# Altium footprint library Connector_Wire.PcbLib: 290 footprints (part 1 of 19)
Each footprint in its own frame and in the unit in brackets; x right, y up, seen from the top. Pads: shape width x height; smd on the part's side, far side on the other; paste and mask are expansions set on the pad; w line width, h text height; cw(c..) or ccw(c..) is an arc to the next point about the centre after c.
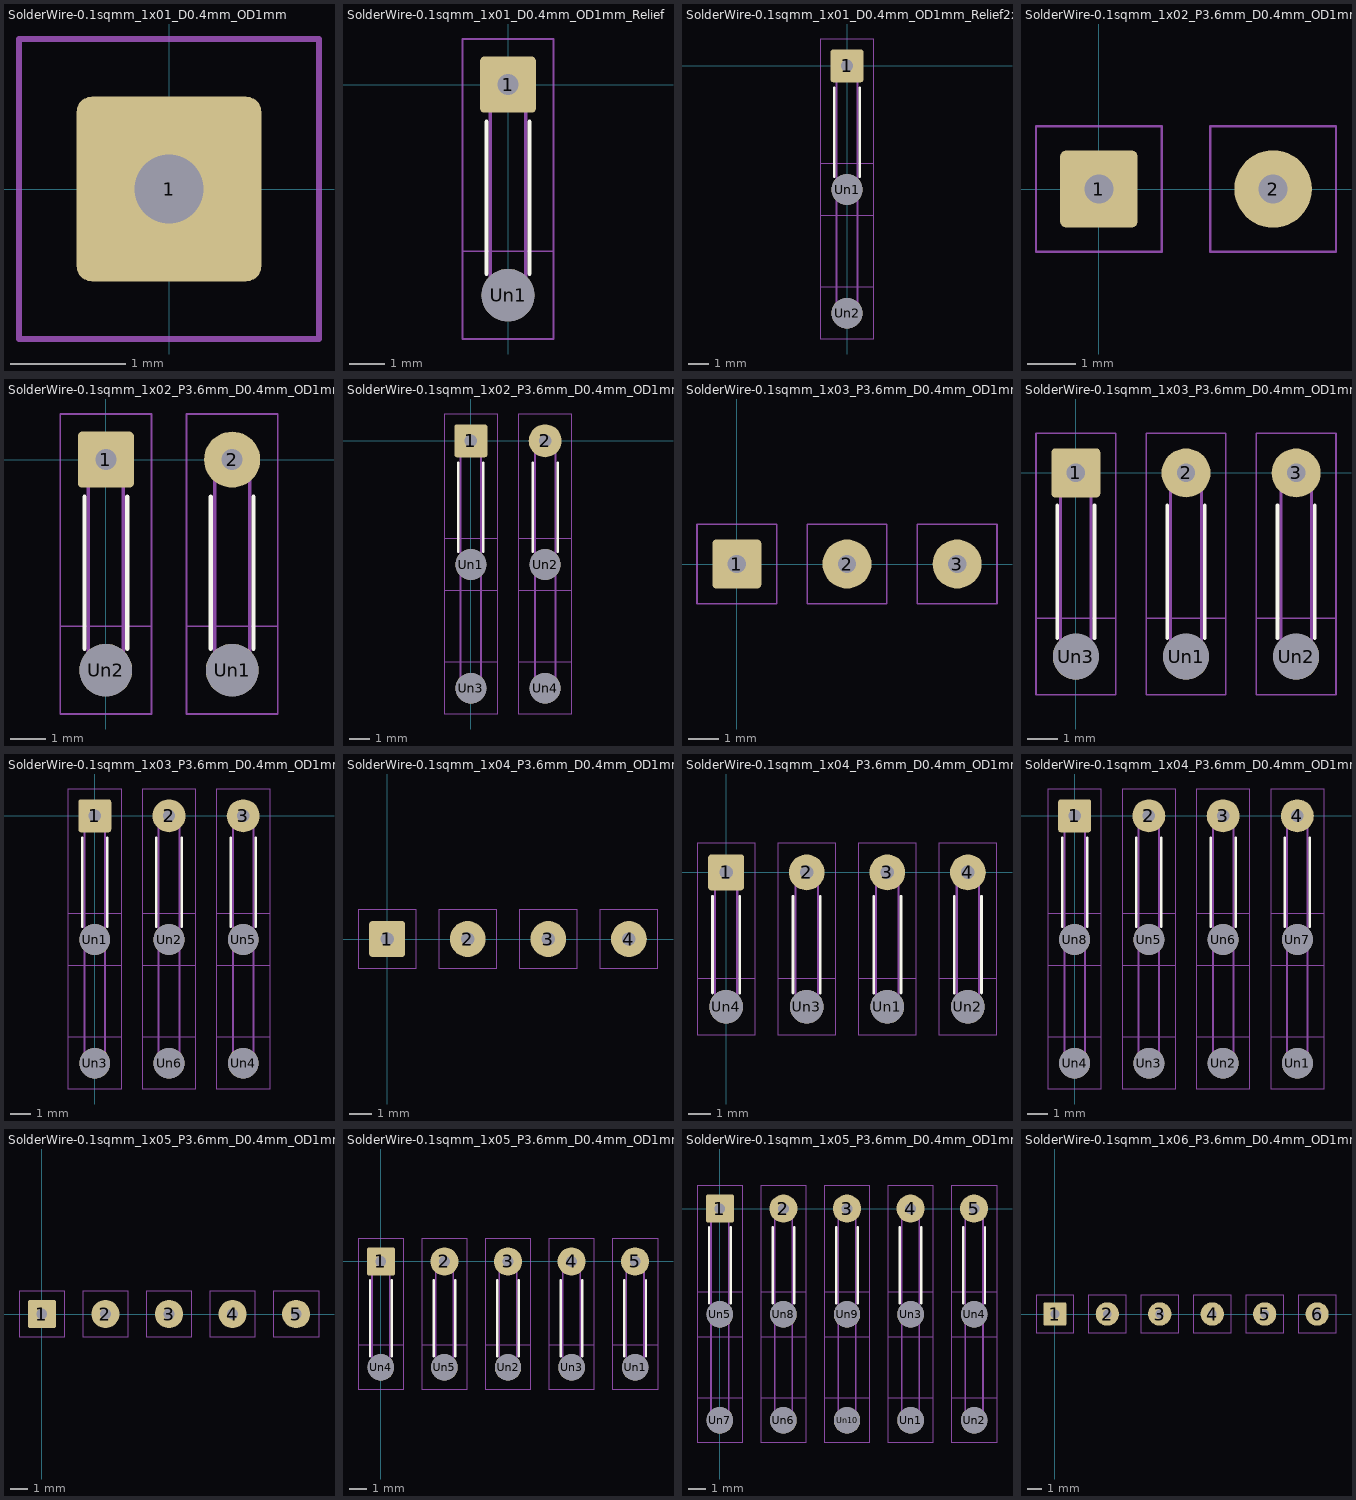
[diagram p0: the footprints below, top view; thin cyan lines are the x and y axes]

## SolderWire-0.1sqmm_1x01_D0.4mm_OD1mm [mm]
pads (1):
  rrect16% 1.6x1.6 hole 0.6: 1(0,0)
F.CrtYd:
  lines w0.05: -1.3,-1.3 -1.3,1.3 1.3,1.3 1.3,-1.3 -1.3,-1.3
F.Fab:
  circle w0.1: c0,0 r0.5
  text "'.Designator'" at -1.014,-0.213 h0.25

## SolderWire-0.1sqmm_1x01_D0.4mm_OD1mm_Relief [mm]
pads (2):
  rrect16% 1.6x1.6 hole 0.6: 1(0,0)
  round 1.5 hole 1.5: Un1(0,-6)
F.SilkS:
  lines w0.12: -0.61,-5.39 -0.61,-1.06 ; 0.61,-5.39 0.61,-1.06
B.CrtYd:
  lines w0.05: -1.3,-7.25 -1.3,-4.75 1.3,-4.75 1.3,-7.25 -1.3,-7.25
F.CrtYd:
  lines w0.05: -1.3,-7.25 -1.3,1.3 1.3,1.3 1.3,-7.25 -1.3,-7.25
F.Fab:
  circle w0.1: c0,-6 r0.5
  circle w0.1: c0,0 r0.5
  lines w0.1: -0.5,-6 -0.5,0 ; 0.5,-6 0.5,0
  text "'.Designator'" at 0.672,-6.237 h0.8

## SolderWire-0.1sqmm_1x01_D0.4mm_OD1mm_Relief2x [mm]
pads (3):
  rrect16% 1.6x1.6 hole 0.6: 1(0,0)
  round 1.5 hole 1.5: Un1(0,-6) Un2(0,-12)
F.SilkS:
  lines w0.12: -0.61,-5.39 -0.61,-1.06 ; 0.61,-5.39 0.61,-1.06
B.SilkS:
  lines w0.12: -0.61,-11.39 -0.61,-6.61 ; 0.61,-11.39 0.61,-6.61
B.CrtYd:
  lines w0.05: -1.3,-13.25 -1.3,-4.75 1.3,-4.75 1.3,-13.25 -1.3,-13.25
F.CrtYd:
  lines w0.05: -1.3,-13.25 1.3,-13.25 1.3,-10.75 -1.3,-10.75 -1.3,-13.25 ; -1.3,-7.25 1.3,-7.25 1.3,1.3 -1.3,1.3 -1.3,-7.25
B.Fab:
  circle w0.1: c0,-6 r0.5
  circle w0.1: c0,-12 r0.5
  lines w0.1: -0.5,-12 -0.5,-6 ; 0.5,-12 0.5,-6
F.Fab:
  circle w0.1: c0,0 r0.5
  circle w0.1: c0,-6 r0.5
  circle w0.1: c0,-12 r0.5
  lines w0.1: -0.5,-6 -0.5,0 ; 0.5,-6 0.5,0
  text "'.Designator'" at 0.672,-6.237 h0.8

## SolderWire-0.1sqmm_1x02_P3.6mm_D0.4mm_OD1mm [mm]
pads (2):
  rrect16% 1.6x1.6 hole 0.6: 1(0,0)
  round 1.6 hole 0.6: 2(3.6,0)
F.CrtYd:
  lines w0.05: -1.3,-1.3 -1.3,1.3 1.3,1.3 1.3,-1.3 -1.3,-1.3 ; 2.3,-1.3 2.3,1.3 4.9,1.3 4.9,-1.3 2.3,-1.3
F.Fab:
  circle w0.1: c0,0 r0.5
  circle w0.1: c3.6,0 r0.5
  text "'.Designator'" at 2.349,-2.633 h0.65

## SolderWire-0.1sqmm_1x02_P3.6mm_D0.4mm_OD1mm_Relief [mm]
pads (4):
  rrect16% 1.6x1.6 hole 0.6: 1(0,0)
  round 1.6 hole 0.6: 2(3.6,0)
  round 1.5 hole 1.5: Un1(3.6,-6) Un2(0,-6)
F.SilkS:
  lines w0.12: -0.61,-5.39 -0.61,-1.06 ; 0.61,-5.39 0.61,-1.06 ; 2.99,-5.39 2.99,-1.06 ; 4.21,-5.39 4.21,-1.06
B.CrtYd:
  lines w0.05: -1.3,-7.25 1.3,-7.25 1.3,-4.75 -1.3,-4.75 -1.3,-7.25 ; 2.3,-7.25 2.3,-4.75 4.9,-4.75 4.9,-7.25 2.3,-7.25
F.CrtYd:
  lines w0.05: -1.3,-7.25 -1.3,1.3 1.3,1.3 1.3,-7.25 -1.3,-7.25 ; 2.3,-7.25 2.3,1.3 4.9,1.3 4.9,-7.25 2.3,-7.25
F.Fab:
  circle w0.1: c3.6,-6 r0.5
  circle w0.1: c0,-6 r0.5
  circle w0.1: c3.6,0 r0.5
  circle w0.1: c0,0 r0.5
  lines w0.1: -0.5,-6 -0.5,0 ; 0.5,-6 0.5,0 ; 3.1,-6 3.1,0 ; 4.1,-6 4.1,0
  text "'.Designator'" at 2.472,-6.237 h0.8

## SolderWire-0.1sqmm_1x02_P3.6mm_D0.4mm_OD1mm_Relief2x [mm]
pads (6):
  rrect16% 1.6x1.6 hole 0.6: 1(0,0)
  round 1.6 hole 0.6: 2(3.6,0)
  round 1.5 hole 1.5: Un1(0,-6) Un2(3.6,-6) Un3(0,-12) Un4(3.6,-12)
F.SilkS:
  lines w0.12: -0.61,-5.39 -0.61,-1.06 ; 0.61,-5.39 0.61,-1.06 ; 2.99,-5.39 2.99,-1.06 ; 4.21,-5.39 4.21,-1.06
B.SilkS:
  lines w0.12: -0.61,-11.39 -0.61,-6.61 ; 0.61,-11.39 0.61,-6.61 ; 2.99,-11.39 2.99,-6.61 ; 4.21,-11.39 4.21,-6.61
B.CrtYd:
  lines w0.05: -1.3,-13.25 1.3,-13.25 1.3,-4.75 -1.3,-4.75 -1.3,-13.25 ; 2.3,-13.25 2.3,-4.75 4.9,-4.75 4.9,-13.25 2.3,-13.25
F.CrtYd:
  lines w0.05: -1.3,-13.25 1.3,-13.25 1.3,-10.75 -1.3,-10.75 -1.3,-13.25 ; -1.3,-7.25 -1.3,1.3 1.3,1.3 1.3,-7.25 -1.3,-7.25 ; 2.3,-13.25 4.9,-13.25 4.9,-10.75 2.3,-10.75 2.3,-13.25 ; 2.3,-7.25 4.9,-7.25 4.9,1.3 2.3,1.3 2.3,-7.25
B.Fab:
  circle w0.1: c3.6,-12 r0.5
  circle w0.1: c0,-12 r0.5
  circle w0.1: c0,-6 r0.5
  circle w0.1: c3.6,-6 r0.5
  lines w0.1: -0.5,-12 -0.5,-6 ; 0.5,-12 0.5,-6 ; 3.1,-12 3.1,-6 ; 4.1,-12 4.1,-6
F.Fab:
  circle w0.1: c3.6,-12 r0.5
  circle w0.1: c3.6,-6 r0.5
  circle w0.1: c0,0 r0.5
  circle w0.1: c0,-6 r0.5
  circle w0.1: c0,-12 r0.5
  circle w0.1: c3.6,0 r0.5
  lines w0.1: -0.5,-6 -0.5,0 ; 0.5,-6 0.5,0 ; 3.1,-6 3.1,0 ; 4.1,-6 4.1,0
  text "'.Designator'" at 2.472,-6.237 h0.8

## SolderWire-0.1sqmm_1x03_P3.6mm_D0.4mm_OD1mm [mm]
pads (3):
  rrect16% 1.6x1.6 hole 0.6: 1(0,0)
  round 1.6 hole 0.6: 2(3.6,0) 3(7.2,0)
F.CrtYd:
  lines w0.05: -1.3,-1.3 1.3,-1.3 1.3,1.3 -1.3,1.3 -1.3,-1.3 ; 2.3,-1.3 4.9,-1.3 4.9,1.3 2.3,1.3 2.3,-1.3 ; 5.9,-1.3 8.5,-1.3 8.5,1.3 5.9,1.3 5.9,-1.3
F.Fab:
  circle w0.1: c7.2,0 r0.5
  circle w0.1: c0,0 r0.5
  circle w0.1: c3.6,0 r0.5
  text "'.Designator'" at 3.813,-1.014 h0.25

## SolderWire-0.1sqmm_1x03_P3.6mm_D0.4mm_OD1mm_Relief [mm]
pads (6):
  rrect16% 1.6x1.6 hole 0.6: 1(0,0)
  round 1.6 hole 0.6: 2(3.6,0) 3(7.2,0)
  round 1.5 hole 1.5: Un1(3.6,-6) Un2(7.2,-6) Un3(0,-6)
F.SilkS:
  lines w0.12: -0.61,-5.39 -0.61,-1.06 ; 0.61,-5.39 0.61,-1.06 ; 2.99,-5.39 2.99,-1.06 ; 4.21,-5.39 4.21,-1.06 ; 6.59,-5.39 6.59,-1.06 ; 7.81,-5.39 7.81,-1.06
B.CrtYd:
  lines w0.05: -1.3,-7.25 -1.3,-4.75 1.3,-4.75 1.3,-7.25 -1.3,-7.25 ; 2.3,-7.25 4.9,-7.25 4.9,-4.75 2.3,-4.75 2.3,-7.25 ; 5.9,-7.25 8.5,-7.25 8.5,-4.75 5.9,-4.75 5.9,-7.25
F.CrtYd:
  lines w0.05: -1.3,-7.25 -1.3,1.3 1.3,1.3 1.3,-7.25 -1.3,-7.25 ; 2.3,-7.25 4.9,-7.25 4.9,1.3 2.3,1.3 2.3,-7.25 ; 5.9,-7.25 8.5,-7.25 8.5,1.3 5.9,1.3 5.9,-7.25
F.Fab:
  circle w0.1: c0,-6 r0.5
  circle w0.1: c3.6,0 r0.5
  circle w0.1: c3.6,-6 r0.5
  circle w0.1: c0,0 r0.5
  circle w0.1: c7.2,0 r0.5
  circle w0.1: c7.2,-6 r0.5
  lines w0.1: -0.5,-6 -0.5,0 ; 0.5,-6 0.5,0 ; 3.1,-6 3.1,0 ; 4.1,-6 4.1,0 ; 6.7,-6 6.7,0 ; 7.7,-6 7.7,0
  text "'.Designator'" at 4.272,-6.237 h0.8

## SolderWire-0.1sqmm_1x03_P3.6mm_D0.4mm_OD1mm_Relief2x [mm]
pads (9):
  rrect16% 1.6x1.6 hole 0.6: 1(0,0)
  round 1.6 hole 0.6: 2(3.6,0) 3(7.2,0)
  round 1.5 hole 1.5: Un1(0,-6) Un2(3.6,-6) Un3(0,-12) Un4(7.2,-12) Un5(7.2,-6) Un6(3.6,-12)
F.SilkS:
  lines w0.12: -0.61,-5.39 -0.61,-1.06 ; 0.61,-5.39 0.61,-1.06 ; 2.99,-5.39 2.99,-1.06 ; 4.21,-5.39 4.21,-1.06 ; 6.59,-5.39 6.59,-1.06 ; 7.81,-5.39 7.81,-1.06
B.SilkS:
  lines w0.12: -0.61,-11.39 -0.61,-6.61 ; 0.61,-11.39 0.61,-6.61 ; 2.99,-11.39 2.99,-6.61 ; 4.21,-11.39 4.21,-6.61 ; 6.59,-11.39 6.59,-6.61 ; 7.81,-11.39 7.81,-6.61
B.CrtYd:
  lines w0.05: -1.3,-13.25 -1.3,-4.75 1.3,-4.75 1.3,-13.25 -1.3,-13.25 ; 2.3,-13.25 4.9,-13.25 4.9,-4.75 2.3,-4.75 2.3,-13.25 ; 5.9,-13.25 5.9,-4.75 8.5,-4.75 8.5,-13.25 5.9,-13.25
F.CrtYd:
  lines w0.05: -1.3,-13.25 -1.3,-10.75 1.3,-10.75 1.3,-13.25 -1.3,-13.25 ; -1.3,-7.25 1.3,-7.25 1.3,1.3 -1.3,1.3 -1.3,-7.25 ; 2.3,-13.25 2.3,-10.75 4.9,-10.75 4.9,-13.25 2.3,-13.25 ; 2.3,-7.25 4.9,-7.25 4.9,1.3 2.3,1.3 2.3,-7.25 ; 5.9,-13.25 5.9,-10.75 8.5,-10.75 8.5,-13.25 5.9,-13.25 ; 5.9,-7.25 5.9,1.3 8.5,1.3 8.5,-7.25 5.9,-7.25
B.Fab:
  circle w0.1: c0,-6 r0.5
  circle w0.1: c7.2,-6 r0.5
  circle w0.1: c3.6,-12 r0.5
  circle w0.1: c7.2,-12 r0.5
  circle w0.1: c3.6,-6 r0.5
  circle w0.1: c0,-12 r0.5
  lines w0.1: -0.5,-12 -0.5,-6 ; 0.5,-12 0.5,-6 ; 3.1,-12 3.1,-6 ; 4.1,-12 4.1,-6 ; 6.7,-12 6.7,-6 ; 7.7,-12 7.7,-6
F.Fab:
  circle w0.1: c7.2,-12 r0.5
  circle w0.1: c0,0 r0.5
  circle w0.1: c7.2,0 r0.5
  circle w0.1: c0,-12 r0.5
  circle w0.1: c3.6,-12 r0.5
  circle w0.1: c3.6,-6 r0.5
  circle w0.1: c0,-6 r0.5
  circle w0.1: c3.6,0 r0.5
  circle w0.1: c7.2,-6 r0.5
  lines w0.1: -0.5,-6 -0.5,0 ; 0.5,-6 0.5,0 ; 3.1,-6 3.1,0 ; 4.1,-6 4.1,0 ; 6.7,-6 6.7,0 ; 7.7,-6 7.7,0
  text "'.Designator'" at 4.272,-6.237 h0.8

## SolderWire-0.1sqmm_1x04_P3.6mm_D0.4mm_OD1mm [mm]
pads (4):
  rrect16% 1.6x1.6 hole 0.6: 1(0,0)
  round 1.6 hole 0.6: 2(3.6,0) 3(7.2,0) 4(10.8,0)
F.CrtYd:
  lines w0.05: -1.3,-1.3 1.3,-1.3 1.3,1.3 -1.3,1.3 -1.3,-1.3 ; 2.3,-1.3 2.3,1.3 4.9,1.3 4.9,-1.3 2.3,-1.3 ; 5.9,-1.3 5.9,1.3 8.5,1.3 8.5,-1.3 5.9,-1.3 ; 9.5,-1.3 12.1,-1.3 12.1,1.3 9.5,1.3 9.5,-1.3
F.Fab:
  circle w0.1: c7.2,0 r0.5
  circle w0.1: c0,0 r0.5
  circle w0.1: c10.8,0 r0.5
  circle w0.1: c3.6,0 r0.5
  text "'.Designator'" at 5.949,-2.633 h0.65

## SolderWire-0.1sqmm_1x04_P3.6mm_D0.4mm_OD1mm_Relief [mm]
pads (8):
  rrect16% 1.6x1.6 hole 0.6: 1(0,0)
  round 1.6 hole 0.6: 2(3.6,0) 3(7.2,0) 4(10.8,0)
  round 1.5 hole 1.5: Un1(7.2,-6) Un2(10.8,-6) Un3(3.6,-6) Un4(0,-6)
F.SilkS:
  lines w0.12: -0.61,-5.39 -0.61,-1.06 ; 0.61,-5.39 0.61,-1.06 ; 2.99,-5.39 2.99,-1.06 ; 4.21,-5.39 4.21,-1.06 ; 6.59,-5.39 6.59,-1.06 ; 7.81,-5.39 7.81,-1.06 ; 10.19,-5.39 10.19,-1.06 ; 11.41,-5.39 11.41,-1.06
B.CrtYd:
  lines w0.05: -1.3,-7.25 1.3,-7.25 1.3,-4.75 -1.3,-4.75 -1.3,-7.25 ; 2.3,-7.25 4.9,-7.25 4.9,-4.75 2.3,-4.75 2.3,-7.25 ; 5.9,-7.25 8.5,-7.25 8.5,-4.75 5.9,-4.75 5.9,-7.25 ; 9.5,-7.25 12.1,-7.25 12.1,-4.75 9.5,-4.75 9.5,-7.25
F.CrtYd:
  lines w0.05: -1.3,-7.25 -1.3,1.3 1.3,1.3 1.3,-7.25 -1.3,-7.25 ; 2.3,-7.25 4.9,-7.25 4.9,1.3 2.3,1.3 2.3,-7.25 ; 5.9,-7.25 8.5,-7.25 8.5,1.3 5.9,1.3 5.9,-7.25 ; 9.5,-7.25 9.5,1.3 12.1,1.3 12.1,-7.25 9.5,-7.25
F.Fab:
  circle w0.1: c7.2,0 r0.5
  circle w0.1: c3.6,0 r0.5
  circle w0.1: c7.2,-6 r0.5
  circle w0.1: c3.6,-6 r0.5
  circle w0.1: c10.8,0 r0.5
  circle w0.1: c0,0 r0.5
  circle w0.1: c0,-6 r0.5
  circle w0.1: c10.8,-6 r0.5
  lines w0.1: -0.5,-6 -0.5,0 ; 0.5,-6 0.5,0 ; 3.1,-6 3.1,0 ; 4.1,-6 4.1,0 ; 6.7,-6 6.7,0 ; 7.7,-6 7.7,0 ; 10.3,-6 10.3,0 ; 11.3,-6 11.3,0
  text "'.Designator'" at 6.072,-6.237 h0.8

## SolderWire-0.1sqmm_1x04_P3.6mm_D0.4mm_OD1mm_Relief2x [mm]
pads (12):
  rrect16% 1.6x1.6 hole 0.6: 1(0,0)
  round 1.6 hole 0.6: 2(3.6,0) 3(7.2,0) 4(10.8,0)
  round 1.5 hole 1.5: Un1(10.8,-12) Un2(7.2,-12) Un3(3.6,-12) Un4(0,-12) Un5(3.6,-6) Un6(7.2,-6) Un7(10.8,-6) Un8(0,-6)
F.SilkS:
  lines w0.12: -0.61,-5.39 -0.61,-1.06 ; 0.61,-5.39 0.61,-1.06 ; 2.99,-5.39 2.99,-1.06 ; 4.21,-5.39 4.21,-1.06 ; 6.59,-5.39 6.59,-1.06 ; 7.81,-5.39 7.81,-1.06 ; 10.19,-5.39 10.19,-1.06 ; 11.41,-5.39 11.41,-1.06
B.SilkS:
  lines w0.12: -0.61,-11.39 -0.61,-6.61 ; 0.61,-11.39 0.61,-6.61 ; 2.99,-11.39 2.99,-6.61 ; 4.21,-11.39 4.21,-6.61 ; 6.59,-11.39 6.59,-6.61 ; 7.81,-11.39 7.81,-6.61 ; 10.19,-11.39 10.19,-6.61 ; 11.41,-11.39 11.41,-6.61
B.CrtYd:
  lines w0.05: -1.3,-13.25 1.3,-13.25 1.3,-4.75 -1.3,-4.75 -1.3,-13.25 ; 2.3,-13.25 2.3,-4.75 4.9,-4.75 4.9,-13.25 2.3,-13.25 ; 5.9,-13.25 5.9,-4.75 8.5,-4.75 8.5,-13.25 5.9,-13.25 ; 9.5,-13.25 9.5,-4.75 12.1,-4.75 12.1,-13.25 9.5,-13.25
F.CrtYd:
  lines w0.05: -1.3,-13.25 1.3,-13.25 1.3,-10.75 -1.3,-10.75 -1.3,-13.25 ; -1.3,-7.25 1.3,-7.25 1.3,1.3 -1.3,1.3 -1.3,-7.25 ; 2.3,-13.25 2.3,-10.75 4.9,-10.75 4.9,-13.25 2.3,-13.25 ; 2.3,-7.25 2.3,1.3 4.9,1.3 4.9,-7.25 2.3,-7.25 ; 5.9,-13.25 8.5,-13.25 8.5,-10.75 5.9,-10.75 5.9,-13.25 ; 5.9,-7.25 8.5,-7.25 8.5,1.3 5.9,1.3 5.9,-7.25 ; 9.5,-13.25 9.5,-10.75 12.1,-10.75 12.1,-13.25 9.5,-13.25 ; 9.5,-7.25 9.5,1.3 12.1,1.3 12.1,-7.25 9.5,-7.25
B.Fab:
  circle w0.1: c3.6,-6 r0.5
  circle w0.1: c7.2,-12 r0.5
  circle w0.1: c10.8,-12 r0.5
  circle w0.1: c7.2,-6 r0.5
  circle w0.1: c0,-6 r0.5
  circle w0.1: c10.8,-6 r0.5
  circle w0.1: c3.6,-12 r0.5
  circle w0.1: c0,-12 r0.5
  lines w0.1: -0.5,-12 -0.5,-6 ; 0.5,-12 0.5,-6 ; 3.1,-12 3.1,-6 ; 4.1,-12 4.1,-6 ; 6.7,-12 6.7,-6 ; 7.7,-12 7.7,-6 ; 10.3,-12 10.3,-6 ; 11.3,-12 11.3,-6
F.Fab:
  circle w0.1: c7.2,-12 r0.5
  circle w0.1: c10.8,0 r0.5
  circle w0.1: c10.8,-6 r0.5
  circle w0.1: c10.8,-12 r0.5
  circle w0.1: c3.6,-12 r0.5
  circle w0.1: c0,0 r0.5
  circle w0.1: c7.2,-6 r0.5
  circle w0.1: c0,-6 r0.5
  circle w0.1: c3.6,-6 r0.5
  circle w0.1: c7.2,0 r0.5
  circle w0.1: c0,-12 r0.5
  circle w0.1: c3.6,0 r0.5
  lines w0.1: -0.5,-6 -0.5,0 ; 0.5,-6 0.5,0 ; 3.1,-6 3.1,0 ; 4.1,-6 4.1,0 ; 6.7,-6 6.7,0 ; 7.7,-6 7.7,0 ; 10.3,-6 10.3,0 ; 11.3,-6 11.3,0
  text "'.Designator'" at 6.072,-6.237 h0.8

## SolderWire-0.1sqmm_1x05_P3.6mm_D0.4mm_OD1mm [mm]
pads (5):
  rrect16% 1.6x1.6 hole 0.6: 1(0,0)
  round 1.6 hole 0.6: 2(3.6,0) 3(7.2,0) 4(10.8,0) 5(14.4,0)
F.CrtYd:
  lines w0.05: -1.3,-1.3 1.3,-1.3 1.3,1.3 -1.3,1.3 -1.3,-1.3 ; 2.3,-1.3 2.3,1.3 4.9,1.3 4.9,-1.3 2.3,-1.3 ; 5.9,-1.3 8.5,-1.3 8.5,1.3 5.9,1.3 5.9,-1.3 ; 9.5,-1.3 9.5,1.3 12.1,1.3 12.1,-1.3 9.5,-1.3 ; 13.1,-1.3 15.7,-1.3 15.7,1.3 13.1,1.3 13.1,-1.3
F.Fab:
  circle w0.1: c3.6,0 r0.5
  circle w0.1: c7.2,0 r0.5
  circle w0.1: c14.4,0 r0.5
  circle w0.1: c10.8,0 r0.5
  circle w0.1: c0,0 r0.5
  text "'.Designator'" at 6.186,-0.213 h0.25

## SolderWire-0.1sqmm_1x05_P3.6mm_D0.4mm_OD1mm_Relief [mm]
pads (10):
  rrect16% 1.6x1.6 hole 0.6: 1(0,0)
  round 1.6 hole 0.6: 2(3.6,0) 3(7.2,0) 4(10.8,0) 5(14.4,0)
  round 1.5 hole 1.5: Un1(14.4,-6) Un2(7.2,-6) Un3(10.8,-6) Un4(0,-6) Un5(3.6,-6)
F.SilkS:
  lines w0.12: -0.61,-5.39 -0.61,-1.06 ; 0.61,-5.39 0.61,-1.06 ; 2.99,-5.39 2.99,-1.06 ; 4.21,-5.39 4.21,-1.06 ; 6.59,-5.39 6.59,-1.06 ; 7.81,-5.39 7.81,-1.06 ; 10.19,-5.39 10.19,-1.06 ; 11.41,-5.39 11.41,-1.06 ; 13.79,-5.39 13.79,-1.06 ; 15.01,-5.39 15.01,-1.06
B.CrtYd:
  lines w0.05: -1.3,-7.25 1.3,-7.25 1.3,-4.75 -1.3,-4.75 -1.3,-7.25 ; 2.3,-7.25 4.9,-7.25 4.9,-4.75 2.3,-4.75 2.3,-7.25 ; 5.9,-7.25 8.5,-7.25 8.5,-4.75 5.9,-4.75 5.9,-7.25 ; 9.5,-7.25 9.5,-4.75 12.1,-4.75 12.1,-7.25 9.5,-7.25 ; 13.1,-7.25 13.1,-4.75 15.7,-4.75 15.7,-7.25 13.1,-7.25
F.CrtYd:
  lines w0.05: -1.3,-7.25 -1.3,1.3 1.3,1.3 1.3,-7.25 -1.3,-7.25 ; 2.3,-7.25 4.9,-7.25 4.9,1.3 2.3,1.3 2.3,-7.25 ; 5.9,-7.25 5.9,1.3 8.5,1.3 8.5,-7.25 5.9,-7.25 ; 9.5,-7.25 12.1,-7.25 12.1,1.3 9.5,1.3 9.5,-7.25 ; 13.1,-7.25 15.7,-7.25 15.7,1.3 13.1,1.3 13.1,-7.25
F.Fab:
  circle w0.1: c3.6,-6 r0.5
  circle w0.1: c7.2,-6 r0.5
  circle w0.1: c14.4,0 r0.5
  circle w0.1: c0,-6 r0.5
  circle w0.1: c10.8,0 r0.5
  circle w0.1: c10.8,-6 r0.5
  circle w0.1: c0,0 r0.5
  circle w0.1: c14.4,-6 r0.5
  circle w0.1: c3.6,0 r0.5
  circle w0.1: c7.2,0 r0.5
  lines w0.1: -0.5,-6 -0.5,0 ; 0.5,-6 0.5,0 ; 3.1,-6 3.1,0 ; 4.1,-6 4.1,0 ; 6.7,-6 6.7,0 ; 7.7,-6 7.7,0 ; 10.3,-6 10.3,0 ; 11.3,-6 11.3,0 ; 13.9,-6 13.9,0 ; 14.9,-6 14.9,0
  text "'.Designator'" at 7.872,-6.237 h0.8

## SolderWire-0.1sqmm_1x05_P3.6mm_D0.4mm_OD1mm_Relief2x [mm]
pads (15):
  rrect16% 1.6x1.6 hole 0.6: 1(0,0)
  round 1.6 hole 0.6: 2(3.6,0) 3(7.2,0) 4(10.8,0) 5(14.4,0)
  round 1.5 hole 1.5: Un1(10.8,-12) Un2(14.4,-12) Un3(10.8,-6) Un4(14.4,-6) Un5(0,-6) Un6(3.6,-12) Un7(0,-12) Un8(3.6,-6) Un9(7.2,-6) Un10(7.2,-12)
F.SilkS:
  lines w0.12: -0.61,-5.39 -0.61,-1.06 ; 0.61,-5.39 0.61,-1.06 ; 2.99,-5.39 2.99,-1.06 ; 4.21,-5.39 4.21,-1.06 ; 6.59,-5.39 6.59,-1.06 ; 7.81,-5.39 7.81,-1.06 ; 10.19,-5.39 10.19,-1.06 ; 11.41,-5.39 11.41,-1.06 ; 13.79,-5.39 13.79,-1.06 ; 15.01,-5.39 15.01,-1.06
B.SilkS:
  lines w0.12: -0.61,-11.39 -0.61,-6.61 ; 0.61,-11.39 0.61,-6.61 ; 2.99,-11.39 2.99,-6.61 ; 4.21,-11.39 4.21,-6.61 ; 6.59,-11.39 6.59,-6.61 ; 7.81,-11.39 7.81,-6.61 ; 10.19,-11.39 10.19,-6.61 ; 11.41,-11.39 11.41,-6.61 ; 13.79,-11.39 13.79,-6.61 ; 15.01,-11.39 15.01,-6.61
B.CrtYd:
  lines w0.05: -1.3,-13.25 1.3,-13.25 1.3,-4.75 -1.3,-4.75 -1.3,-13.25 ; 2.3,-13.25 4.9,-13.25 4.9,-4.75 2.3,-4.75 2.3,-13.25 ; 5.9,-13.25 8.5,-13.25 8.5,-4.75 5.9,-4.75 5.9,-13.25 ; 9.5,-13.25 12.1,-13.25 12.1,-4.75 9.5,-4.75 9.5,-13.25 ; 13.1,-13.25 13.1,-4.75 15.7,-4.75 15.7,-13.25 13.1,-13.25
F.CrtYd:
  lines w0.05: -1.3,-13.25 1.3,-13.25 1.3,-10.75 -1.3,-10.75 -1.3,-13.25 ; -1.3,-7.25 1.3,-7.25 1.3,1.3 -1.3,1.3 -1.3,-7.25 ; 2.3,-13.25 4.9,-13.25 4.9,-10.75 2.3,-10.75 2.3,-13.25 ; 2.3,-7.25 2.3,1.3 4.9,1.3 4.9,-7.25 2.3,-7.25 ; 5.9,-13.25 5.9,-10.75 8.5,-10.75 8.5,-13.25 5.9,-13.25 ; 5.9,-7.25 5.9,1.3 8.5,1.3 8.5,-7.25 5.9,-7.25 ; 9.5,-13.25 12.1,-13.25 12.1,-10.75 9.5,-10.75 9.5,-13.25 ; 9.5,-7.25 12.1,-7.25 12.1,1.3 9.5,1.3 9.5,-7.25 ; 13.1,-13.25 13.1,-10.75 15.7,-10.75 15.7,-13.25 13.1,-13.25 ; 13.1,-7.25 13.1,1.3 15.7,1.3 15.7,-7.25 13.1,-7.25
B.Fab:
  circle w0.1: c14.4,-12 r0.5
  circle w0.1: c10.8,-6 r0.5
  circle w0.1: c14.4,-6 r0.5
  circle w0.1: c0,-6 r0.5
  circle w0.1: c7.2,-12 r0.5
  circle w0.1: c3.6,-12 r0.5
  circle w0.1: c7.2,-6 r0.5
  circle w0.1: c0,-12 r0.5
  circle w0.1: c3.6,-6 r0.5
  circle w0.1: c10.8,-12 r0.5
  lines w0.1: -0.5,-12 -0.5,-6 ; 0.5,-12 0.5,-6 ; 3.1,-12 3.1,-6 ; 4.1,-12 4.1,-6 ; 6.7,-12 6.7,-6 ; 7.7,-12 7.7,-6 ; 10.3,-12 10.3,-6 ; 11.3,-12 11.3,-6 ; 13.9,-12 13.9,-6 ; 14.9,-12 14.9,-6
F.Fab:
  circle w0.1: c10.8,0 r0.5
  circle w0.1: c7.2,-6 r0.5
  circle w0.1: c3.6,-6 r0.5
  circle w0.1: c14.4,0 r0.5
  circle w0.1: c7.2,-12 r0.5
  circle w0.1: c3.6,-12 r0.5
  circle w0.1: c14.4,-12 r0.5
  circle w0.1: c0,-6 r0.5
  circle w0.1: c3.6,0 r0.5
  circle w0.1: c14.4,-6 r0.5
  circle w0.1: c0,-12 r0.5
  circle w0.1: c10.8,-6 r0.5
  circle w0.1: c0,0 r0.5
  circle w0.1: c10.8,-12 r0.5
  circle w0.1: c7.2,0 r0.5
  lines w0.1: -0.5,-6 -0.5,0 ; 0.5,-6 0.5,0 ; 3.1,-6 3.1,0 ; 4.1,-6 4.1,0 ; 6.7,-6 6.7,0 ; 7.7,-6 7.7,0 ; 10.3,-6 10.3,0 ; 11.3,-6 11.3,0 ; 13.9,-6 13.9,0 ; 14.9,-6 14.9,0
  text "'.Designator'" at 7.872,-6.237 h0.8

## SolderWire-0.1sqmm_1x06_P3.6mm_D0.4mm_OD1mm [mm]
pads (6):
  rrect16% 1.6x1.6 hole 0.6: 1(0,0)
  round 1.6 hole 0.6: 2(3.6,0) 3(7.2,0) 4(10.8,0) 5(14.4,0) 6(18,0)
F.CrtYd:
  lines w0.05: -1.3,-1.3 1.3,-1.3 1.3,1.3 -1.3,1.3 -1.3,-1.3 ; 2.3,-1.3 2.3,1.3 4.9,1.3 4.9,-1.3 2.3,-1.3 ; 5.9,-1.3 8.5,-1.3 8.5,1.3 5.9,1.3 5.9,-1.3 ; 9.5,-1.3 12.1,-1.3 12.1,1.3 9.5,1.3 9.5,-1.3 ; 13.1,-1.3 15.7,-1.3 15.7,1.3 13.1,1.3 13.1,-1.3 ; 16.7,-1.3 19.3,-1.3 19.3,1.3 16.7,1.3 16.7,-1.3
F.Fab:
  circle w0.1: c14.4,0 r0.5
  circle w0.1: c10.8,0 r0.5
  circle w0.1: c18,0 r0.5
  circle w0.1: c0,0 r0.5
  circle w0.1: c3.6,0 r0.5
  circle w0.1: c7.2,0 r0.5
  text "'.Designator'" at 9.549,-2.633 h0.65